# EAGLE library part MSGEQ7 (library ynakano1127)
Seven Band Graphic Equalizer
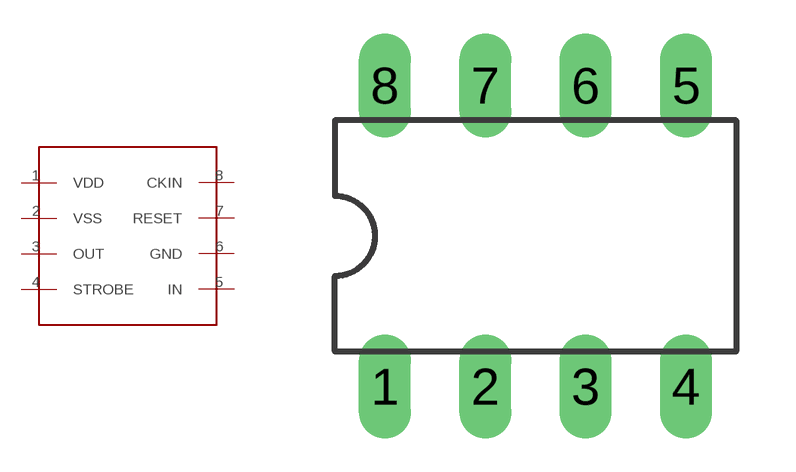
[diagram p0: symbol with the pads of DIL08; footprint DIL08]

Designator prefix -

## MSGEQ7  [DIL08]
1  VDD
2  VSS
3  OUT
4  STROBE
5  IN
6  GND
7  RESET
8  CKIN

## Footprint DIL08 (pad centres in mm)
Dual In Line Package
drill 0.813 long: 1 -3.81,-3.81; 2 -1.27,-3.81; 3 1.27,-3.81; 4 3.81,-3.81; 5 3.81,3.81; 6 1.27,3.81; 7 -1.27,3.81; 8 -3.81,3.81